# EAGLE library part SMB380 (library bosch-sensor)
SMB380 Triaxial ±2g/±4g/±8g acceleration sensor
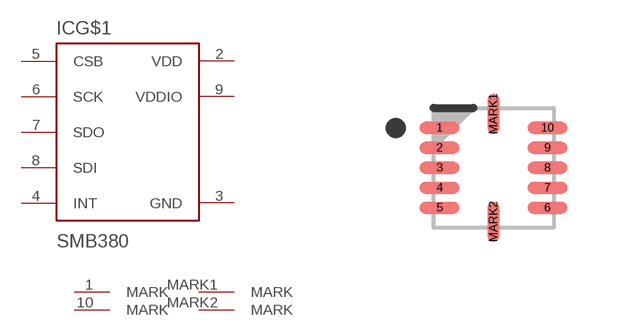
[diagram p1: symbol with the pads of QFN50P300X300X100-12N; footprint QFN50P300X300X100-12N]

Designator prefix IC; gates G$1=SMB380 G$2=MARK G$3=MARK G$4=MARK G$5=MARK

## SMB380  [QFN50P300X300X100-12N]
1  G$2:MARK  nc
2  G$1:VDD  pwr
3  G$1:GND  pwr
4  G$1:INT  out
5  G$1:CSB  in
6  G$1:SCK  in
7  G$1:SDO  out
8  G$1:SDI  in
9  G$1:VDDIO  pwr
10  G$3:MARK  nc
MARK1  G$4:MARK  nc
MARK2  G$5:MARK  nc

## Footprint QFN50P300X300X100-12N (pad centres in mm)
IPC7351A / QFN12 / SMB380
smd 1 x 0.3: 1 -1.35,1; 2 -1.35,0.5; 3 -1.35,0; 4 -1.35,-0.5; 5 -1.35,-1; 6 1.35,-1; 7 1.35,-0.5; 8 1.35,0; 9 1.35,0.5; 10 1.35,1
smd 0.3 x 1: MARK1 0,1.35; MARK2 0,-1.35